# Altium footprint library ISD2360SYI.PcbLib: 3 footprints
Each footprint in its own frame and in the unit in brackets; x right, y up, seen from the top. Pads: shape width x height; smd on the part's side, far side on the other; paste and mask are expansions set on the pad; w line width, h text height; cw(c..) or ccw(c..) is an arc to the next point about the centre after c.
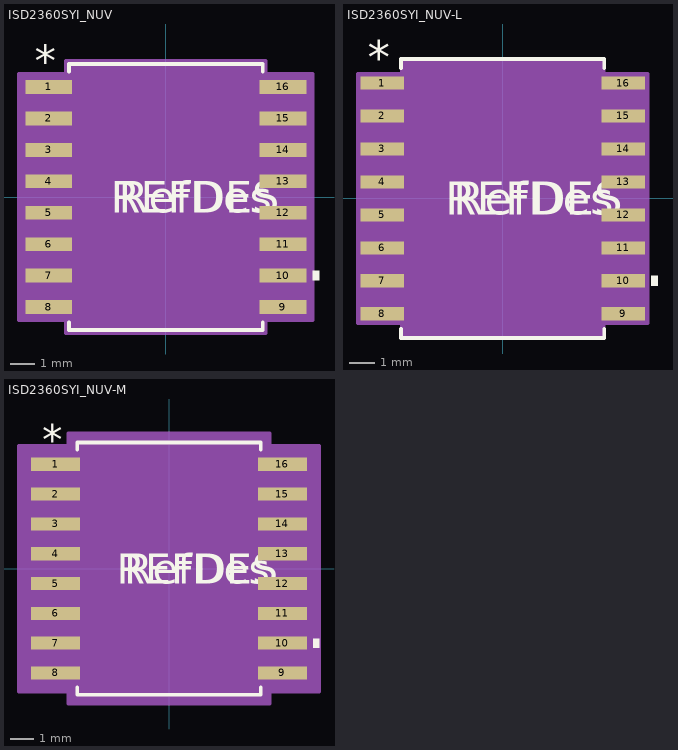
[diagram p0: the footprints below, top view; thin cyan lines are the x and y axes]

## ISD2360SYI_NUV [mil]
pads (16):
  rect 74.5x22 smd paste+0 mask+0: 1(-186.25,175) 2(-186.25,125) 3(-186.25,75) 4(-186.25,25) 5(-186.25,-25) 6(-186.25,-75) 7(-186.25,-125) 8(-186.25,-175) 9(186.25,-175) 10(186.25,-125) 11(186.25,-75) 12(186.25,-25) 13(186.25,25) 14(186.25,75) 15(186.25,125) 16(186.25,175)
Top Overlay:
  region: 233.5,-117.5 243.5,-117.5 243.5,-132.5 233.5,-132.5
  lines w6: -154,-199.1 -154,-211.5 154,-211.5 154,-199.1 ; -154,199.1 -154,211.5 154,211.5 154,199.1
  text "REFDES" at -87.5,-25 h50
  text "*" at -208.75,192 h50
  text "RefDes" at -75,-25 h50
Mechanical 13:
  lines w0: -12,206.5 ccw(c0,206.5) 12,206.5
  lines w1: -209.5,-185 -209.5,-165 -149,-165 -149,-185 -209.5,-185 ; -209.5,-135 -209.5,-115 -149,-115 -149,-135 -209.5,-135 ; -209.5,-85 -209.5,-65 -149,-65 -149,-85 -209.5,-85 ; -209.5,-35 -209.5,-15 -149,-15 -149,-35 -209.5,-35 ; -209.5,15 -209.5,35 -149,35 -149,15 -209.5,15 ; -209.5,65 -209.5,85 -149,85 -149,65 -209.5,65 ; -209.5,115 -209.5,135 -149,135 -149,115 -209.5,115 ; -209.5,165 -209.5,185 -149,185 -149,165 -209.5,165 ; -149,-206.5 149,-206.5 149,206.5 -149,206.5 -149,-206.5 ; 149,-185 149,-165 209.5,-165 209.5,-185 149,-185 ; 149,-135 149,-115 209.5,-115 209.5,-135 149,-135 ; 149,-85 149,-65 209.5,-65 209.5,-85 149,-85 ; 149,-35 149,-15 209.5,-15 209.5,-35 149,-35 ; 149,15 149,35 209.5,35 209.5,15 149,15 ; 149,65 149,85 209.5,85 209.5,65 149,65 ; 149,115 149,135 209.5,135 209.5,115 149,115 ; 149,165 149,185 209.5,185 209.5,165 149,165
  text "*" at -146.5,153.5 h50
  text "RefDes2" at -87.5,-25 h50
Mechanical 15:
  region: -159,-196 -233.5,-196 -233.5,196 -159,196 -159,216.5 159,216.5 159,196 233.5,196 233.5,-196 159,-196 159,-216.5 -159,-216.5
  lines w6: -233.5,-196 -233.5,196 -159,196 -159,216.5 159,216.5 159,196 233.5,196 233.5,-196 159,-196 159,-216.5 -159,-216.5 -159,-196 -233.5,-196
3D body "ISD2360SYI_NUV.step": height 104.09, standoff 0, extent -209.49,-206.5 209.49,206.5

## ISD2360SYI_NUV-L [mil]
pads (16):
  rect 66x20 smd paste+0 mask+0: 1(-182.5,175) 2(-182.5,125) 3(-182.5,75) 4(-182.5,25) 5(-182.5,-25) 6(-182.5,-75) 7(-182.5,-125) 8(-182.5,-175) 9(182.5,-175) 10(182.5,-125) 11(182.5,-75) 12(182.5,-25) 13(182.5,25) 14(182.5,75) 15(182.5,125) 16(182.5,175)
Top Overlay:
  region: 225.5,-117.5 235.5,-117.5 235.5,-132.5 225.5,-132.5
  lines w6: -154,-198.1 -154,-211.5 154,-211.5 154,-198.1 ; -154,198.1 -154,211.5 154,211.5 154,198.1
  text "REFDES" at -87.5,-25 h50
  text "*" at -205,190 h50
  text "RefDes" at -75,-25 h50
Mechanical 13:
  lines w0: -12,206.5 ccw(c0,206.5) 12,206.5
  lines w1: -209.5,-185 -209.5,-165 -149,-165 -149,-185 -209.5,-185 ; -209.5,-135 -209.5,-115 -149,-115 -149,-135 -209.5,-135 ; -209.5,-85 -209.5,-65 -149,-65 -149,-85 -209.5,-85 ; -209.5,-35 -209.5,-15 -149,-15 -149,-35 -209.5,-35 ; -209.5,15 -209.5,35 -149,35 -149,15 -209.5,15 ; -209.5,65 -209.5,85 -149,85 -149,65 -209.5,65 ; -209.5,115 -209.5,135 -149,135 -149,115 -209.5,115 ; -209.5,165 -209.5,185 -149,185 -149,165 -209.5,165 ; -149,-206.5 149,-206.5 149,206.5 -149,206.5 -149,-206.5 ; 149,-185 149,-165 209.5,-165 209.5,-185 149,-185 ; 149,-135 149,-115 209.5,-115 209.5,-135 149,-135 ; 149,-85 149,-65 209.5,-65 209.5,-85 149,-85 ; 149,-35 149,-15 209.5,-15 209.5,-35 149,-35 ; 149,15 149,35 209.5,35 209.5,15 149,15 ; 149,65 149,85 209.5,85 209.5,65 149,65 ; 149,115 149,135 209.5,135 209.5,115 149,115 ; 149,165 149,185 209.5,185 209.5,165 149,165
  text "*" at -146.5,153.5 h50
  text "RefDes2" at -87.5,-25 h50
Mechanical 15:
  region: -153,-189 -219.5,-189 -219.5,189 -153,189 -153,210.5 153,210.5 153,189 219.5,189 219.5,-189 153,-189 153,-210.5 -153,-210.5
  lines w6: -219.5,-189 -219.5,189 -153,189 -153,210.5 153,210.5 153,189 219.5,189 219.5,-189 153,-189 153,-210.5 -153,-210.5 -153,-189 -219.5,-189
3D body "ISD2360SYI_NUV.step": height 104.09, standoff 0, extent -209.49,-206.5 209.49,206.5

## ISD2360SYI_NUV-M [mil]
pads (16):
  rect 82.5x22 smd paste+0 mask+0: 1(-190.25,175) 2(-190.25,125) 3(-190.25,75) 4(-190.25,25) 5(-190.25,-25) 6(-190.25,-75) 7(-190.25,-125) 8(-190.25,-175) 9(190.25,-175) 10(190.25,-125) 11(190.25,-75) 12(190.25,-25) 13(190.25,25) 14(190.25,75) 15(190.25,125) 16(190.25,175)
Top Overlay:
  region: 241.5,-117.5 251.5,-117.5 251.5,-132.5 241.5,-132.5
  lines w6: -154,-199.1 -154,-211.5 154,-211.5 154,-199.1 ; -154,199.1 -154,211.5 154,211.5 154,199.1
  text "REFDES" at -87.5,-25 h50
  text "*" at -212.75,192 h50
  text "RefDes" at -75,-25 h50
Mechanical 13:
  lines w0: -12,206.5 ccw(c0,206.5) 12,206.5
  lines w1: -209.5,-185 -209.5,-165 -149,-165 -149,-185 -209.5,-185 ; -209.5,-135 -209.5,-115 -149,-115 -149,-135 -209.5,-135 ; -209.5,-85 -209.5,-65 -149,-65 -149,-85 -209.5,-85 ; -209.5,-35 -209.5,-15 -149,-15 -149,-35 -209.5,-35 ; -209.5,15 -209.5,35 -149,35 -149,15 -209.5,15 ; -209.5,65 -209.5,85 -149,85 -149,65 -209.5,65 ; -209.5,115 -209.5,135 -149,135 -149,115 -209.5,115 ; -209.5,165 -209.5,185 -149,185 -149,165 -209.5,165 ; -149,-206.5 149,-206.5 149,206.5 -149,206.5 -149,-206.5 ; 149,-185 149,-165 209.5,-165 209.5,-185 149,-185 ; 149,-135 149,-115 209.5,-115 209.5,-135 149,-135 ; 149,-85 149,-65 209.5,-65 209.5,-85 149,-85 ; 149,-35 149,-15 209.5,-15 209.5,-35 149,-35 ; 149,15 149,35 209.5,35 209.5,15 149,15 ; 149,65 149,85 209.5,85 209.5,65 149,65 ; 149,115 149,135 209.5,135 209.5,115 149,115 ; 149,165 149,185 209.5,185 209.5,165 149,165
  text "*" at -146.5,153.5 h50
  text "RefDes2" at -87.5,-25 h50
Mechanical 15:
  region: -169,-206 -251.5,-206 -251.5,206 -169,206 -169,226.5 169,226.5 169,206 251.5,206 251.5,-206 169,-206 169,-226.5 -169,-226.5
  lines w6: -251.5,-206 -251.5,206 -169,206 -169,226.5 169,226.5 169,206 251.5,206 251.5,-206 169,-206 169,-226.5 -169,-226.5 -169,-206 -251.5,-206
3D body "ISD2360SYI_NUV.step": height 104.09, standoff 0, extent -209.49,-206.5 209.49,206.5